# EAGLE library part 79107-18_S (library con-molex-milli-grid)
RECEPTACAL
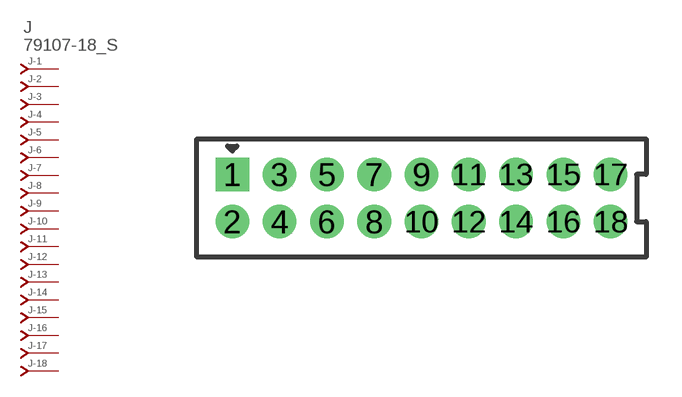
[diagram p253: symbol with the pads of 79107-18; footprint 79107-18]

Designator prefix J; gates -1=J-NV -2=J-N -3=J-N -4=J-N -5=J-N -6=J-N -7=J-N -8=J-N -9=J-N -10=J-N -11=J-N -12=J-N -13=J-N -14=J-N -15=J-N -16=J-N -17=J-N -18=J-N

## 79107-18_S  [79107-18]
1  -1:J  pas
2  -2:J  pas
3  -3:J  pas
4  -4:J  pas
5  -5:J  pas
6  -6:J  pas
7  -7:J  pas
8  -8:J  pas
9  -9:J  pas
10  -10:J  pas
11  -11:J  pas
12  -12:J  pas
13  -13:J  pas
14  -14:J  pas
15  -15:J  pas
16  -16:J  pas
17  -17:J  pas
18  -18:J  pas

## Footprint 79107-18 (pad centres in mm)
RECEPTACAL Dual Row, Vertical, Through-Hole
drill 0.914 square: 1 -8,1
drill 0.914: 2 -8,-1; 3 -6,1; 4 -6,-1; 5 -4,1; 6 -4,-1; 7 -2,1; 8 -2,-1; 9 0,1; 10 0,-1; 11 2,1; 12 2,-1; 13 4,1; 14 4,-1; 15 6,1; 16 6,-1; 17 8,1; 18 8,-1